# Altium schematic symbol library Interface.SchLib: 5 symbols
Pins are listed as number, name and electrical type; pins without a type are passive.

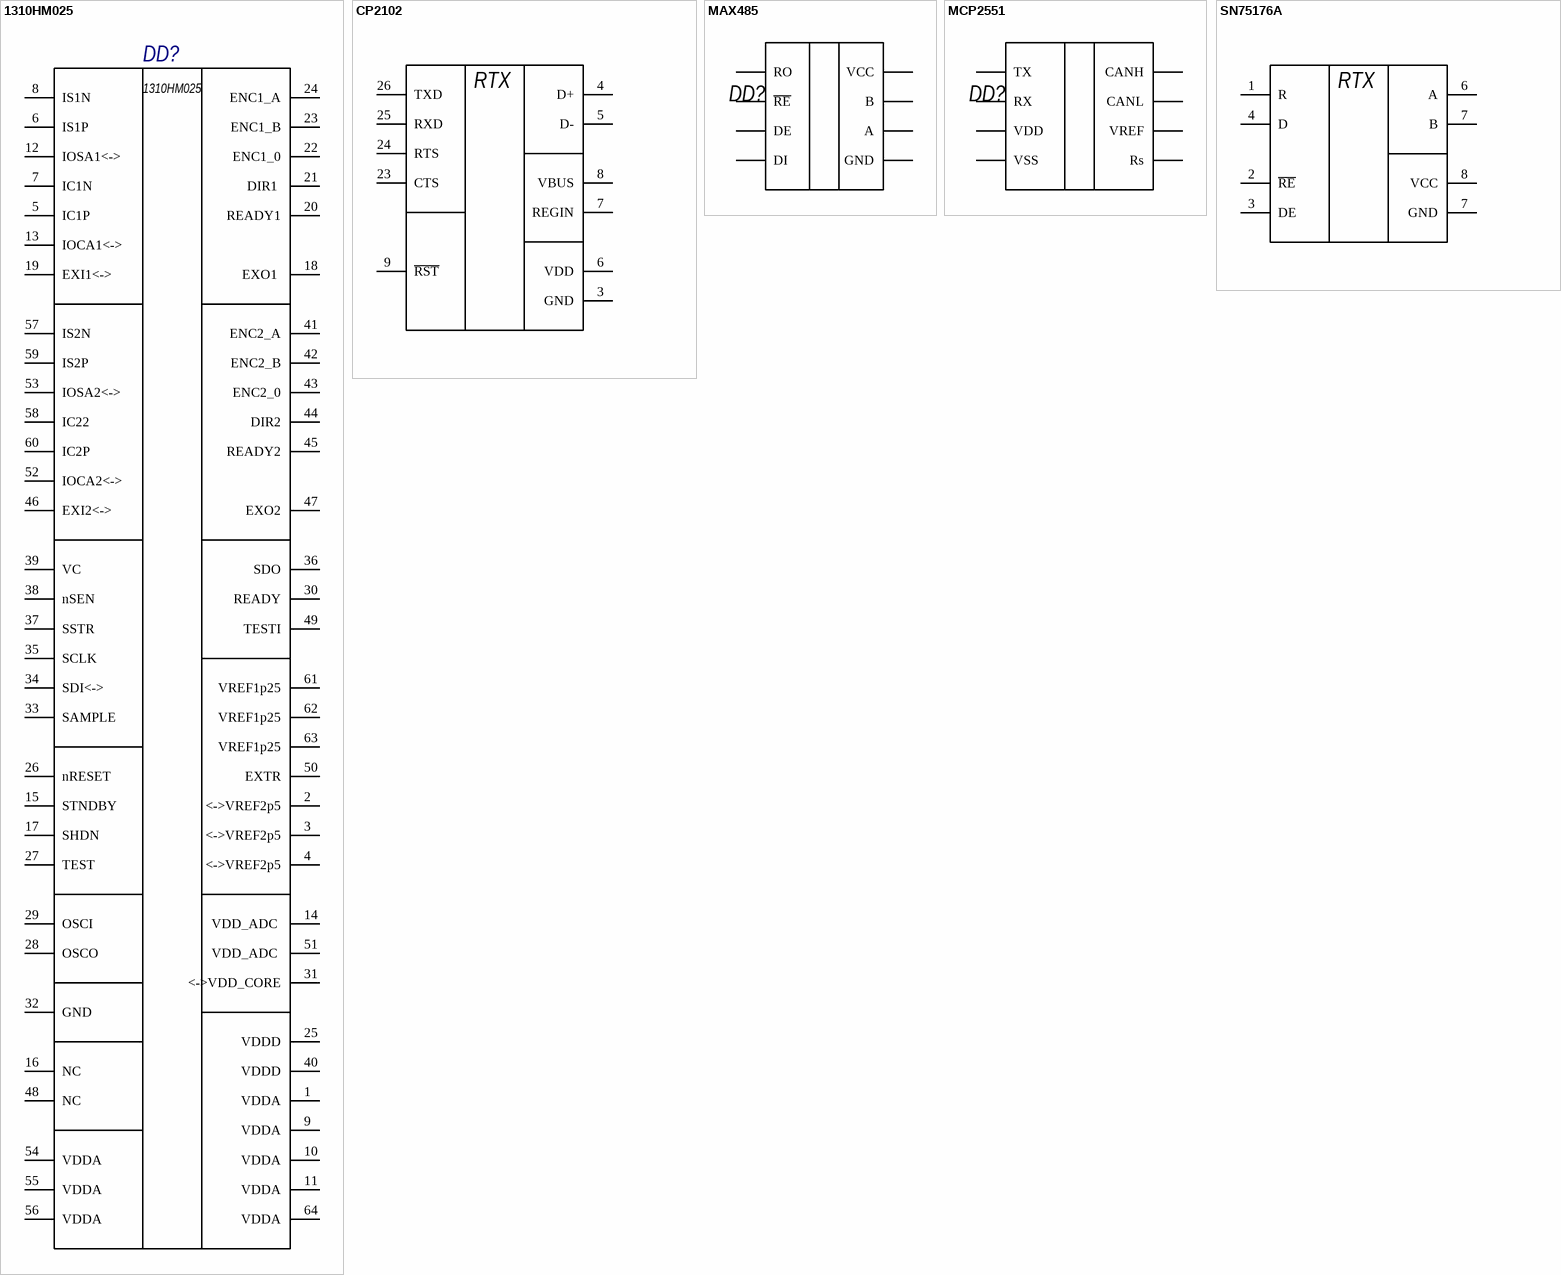
[diagram p0: symbols 1310НМ025 to SN75176A]

## 1310НМ025
designator DD?
Part: R 0805 ±1%; Cat: Резистор; Name: NULL; Power: 0,125 Вт; Tolerance: ±1%; Bill: Резистор NULL-0,125 Вт-NULL±1%; Com: R0805 0,125 Вт NULL ±1%; Package: R0805; Nominal: NULL
pins: 1 VDDA, 2 <->VREF2p5, 3 <->VREF2p5, 4 <->VREF2p5, 5 IC1P, 6 IS1P, 7 IC1N, 8 IS1N, 9 VDDA, 10 VDDA, 11 VDDA, 12 IOSA1<->, 13 IOCA1<->, 14 VDD_ADC , 15 STNDBY, 16 NC, 17 SHDN, 18 EXO1 , 19 EXI1<->, 20 READY1, 21 DIR1 , 22 ENC1_0, 23 ENC1_B, 24 ENC1_A, 25 VDDD, 26 nRESET, 27 TEST, 28 OSCO, 29 OSCI, 30 READY, 31 <->VDD_CORE, 32 GND, 33 SAMPLE, 34 SDI<->, 35 SCLK, 36 SDO, 37 SSTR, 38 nSEN, 39 VC, 40 VDDD, 41 ENC2_A, 42 ENC2_B, 43 ENC2_0, 44 DIR2, 45 READY2, 46 EXI2<->, 47 EXO2, 48 NC, 49 TESTI, 50 EXTR, 51 VDD_ADC , 52 IOCA2<->, 53 IOSA2<->, 54 VDDA, 55 VDDA, 56 VDDA, 57 IS2N, 58 IC22, 59 IS2P, 60 IC2P, 61 VREF1p25, 62 VREF1p25, 63 VREF1p25, 64 VDDA

## CP2102
designator DD?
Part: R 0805 ±1%; Cat: Резистор; Name: NULL; Power: 0,125 Вт; Tolerance: ±1%; Bill: Резистор NULL-0,125 Вт-NULL±1%; Com: R0805 0,125 Вт NULL ±1%; Package: R0805; Nominal: NULL
pins: 1 DCD hidden, 2 RI hidden, 3 GND, 4 D+, 5 D-, 6 VDD, 7 REGIN, 8 VBUS, 9 ~{RST}, 11 ~{SUSPEND} hidden, 12 SUSPEND hidden, 23 CTS, 24 RTS, 25 RXD, 26 TXD, 27 DSR hidden, 28 DTR hidden
text: RTX

## MAX485
designator DD?  (value not drawn)
footprint DIP-8
footprint SOIC-8 (SOIC, 8-Leads, Body 4,95x3,85mm, Pitch 1,27mm, IPC High Density)
pins: 1 RO, 2 ~{RE}, 3 DE, 4 DI, 5 GND, 6 A, 7 B, 8 VCC

## MCP2551
designator DD?  (value not drawn)
footprint SOIC-8 (SOIC, 8-Leads, Body 4,95x3,85mm, Pitch 1,27mm, IPC High Density)
footprint DIP-8
pins: 1 TX, 2 VSS, 3 VDD, 4 RX, 5 VREF, 6 CANL, 7 CANH, 8 Rs

## SN75176A
designator R?
Part: R 0805 ±1%; Cat: Резистор; Name: NULL; Power: 0,125 Вт; Tolerance: ±1%; Bill: Резистор NULL-0,125 Вт-NULL±1%; Com: R0805 0,125 Вт NULL ±1%; Package: R0805; Nominal: NULL
pins: 1 R, 2 ~{RE}, 3 DE, 4 D, 6 A, 7 GND, 7 B, 8 VCC
text: RTX